# Altium footprint library BAR_SENS.PcbLib: 34 footprints (part 1 of 3)
Each footprint in its own frame and in the unit in brackets; x right, y up, seen from the top. Pads: shape width x height; smd on the part's side, far side on the other; paste and mask are expansions set on the pad; w line width, h text height; cw(c..) or ccw(c..) is an arc to the next point about the centre after c.
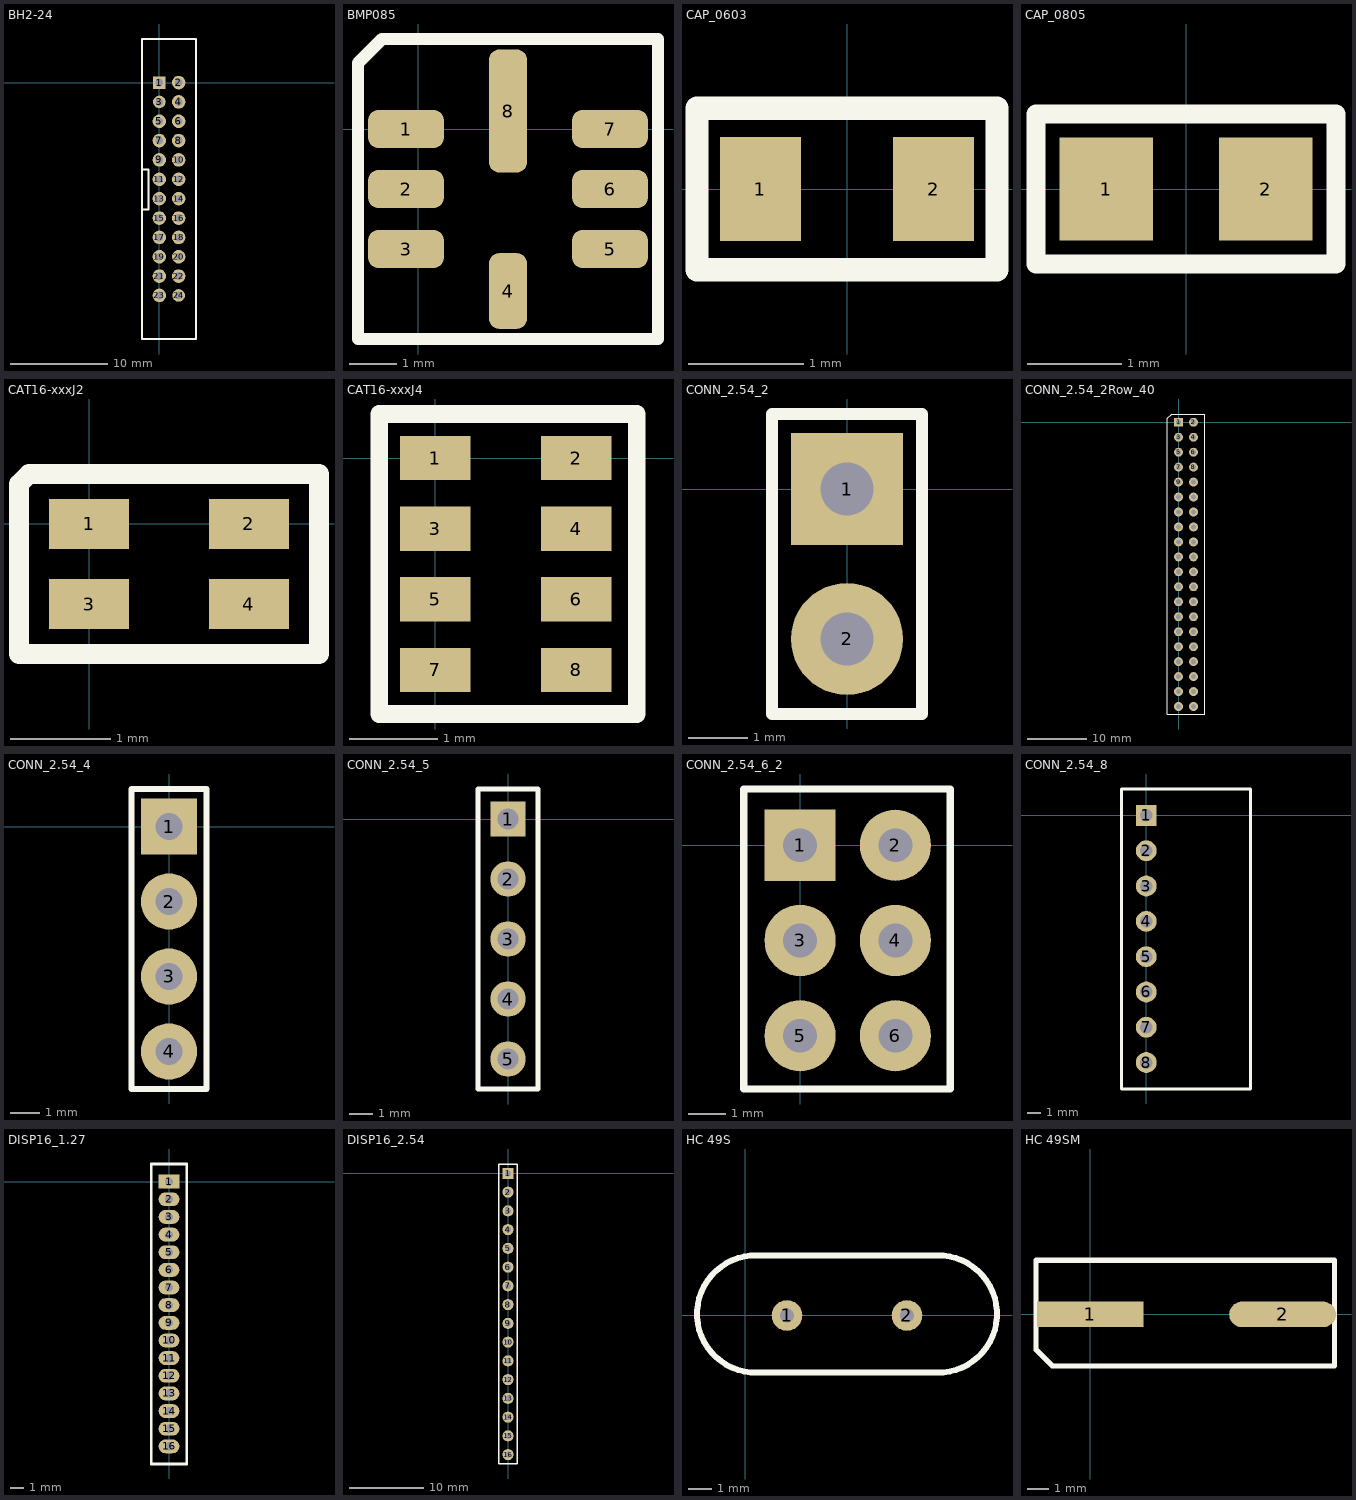
[diagram p0: the footprints below, top view; thin cyan lines are the x and y axes]

## BH2-24 [mm]
pads (24):
  rect 1.3x1.3 hole 0.8: 1(0,0)
  round 1.4 hole 0.8: 2(2,0) 4(2,-2) 5(0,-4) 6(2,-4) 7(0,-6) 8(2,-6) 9(0,-8) 10(2,-8) 11(0,-10) 12(2,-10) 13(0,-12) 14(2,-12) 15(0,-14) 16(2,-14) 17(0,-16) 18(2,-16) 19(0,-18) 20(2,-18) 21(0,-20) 22(2,-20) 23(0,-22)
  round 1.3 hole 0.8: 3(0,-2) 24(2,-22)
Top Overlay:
  lines w0.2: -1.8,-13.1 -1.1,-13.1 -1.1,-9 -1.8,-9 ; 0.5,4.5 3.8,4.5 3.8,-26.5 0.205,-26.5 -1.8,-26.5 -1.8,4.5 -0.077,4.5 0.307,4.5 1.5,4.5

## BMP085 [mm] "3"
height 10
pads (8):
  rrect50% 1.6x0.8 smd: 1(-0.254,0) 2(-0.254,-1.27) 3(-0.254,-2.54) 5(4.064,-2.54) 6(4.064,-1.27) 7(4.064,0)
  rrect50% 0.8x1.6 smd: 4(1.905,-3.429)
  rrect50% 0.8x2.6 smd: 8(1.905,0.381)
Top Overlay:
  lines w0.254: -1.27,-4.445 -1.27,-1.784 -1.27,1.397 -0.762,1.905 5.08,1.905 5.08,-4.445 -1.27,-4.445

## CAP_0603 [mm]
pads (2):
  rect 0.7x0.9 smd: 1(-0.75,0) 2(0.75,0)
Top Overlay:
  lines w0.2: -1.3,-0.7 -0.65,-0.7 0.65,-0.7 1.3,-0.7 1.3,0.7 -1.3,0.7 -1.3,-0.05 -1.3,-0.7

## CAP_0805 [mm]
pads (2):
  rect 1x1.1 smd: 1(-0.85,0) 2(0.85,0)
Top Overlay:
  lines w0.2: -1.6,-0.8 1.6,-0.8 1.6,0.8 -1.6,0.8 -1.6,-0.117 -1.6,-0.8

## CAT16-xxxJ2 [mm]
pads (4):
  rect 0.8x0.5 smd: 1(0,0) 2(1.6,0) 3(0,-0.8) 4(1.6,-0.8)
Top Overlay:
  lines w0.2: 0.6,0.5 2.3,0.5 2.3,-1.3 -0.7,-1.3 -0.7,0.4 -0.6,0.5 1,0.5

## CAT16-xxxJ4 [mm]
pads (8):
  rect 0.8x0.5 smd: 1(0,0) 2(1.6,0) 3(0,-0.8) 4(1.6,-0.8) 5(0,-1.6) 6(1.6,-1.6) 7(0,-2.4) 8(1.6,-2.4)
Top Overlay:
  lines w0.2: 0.6,0.5 2.286,0.5 2.286,-2.9 -0.635,-2.9 -0.635,0.5 1,0.5

## CONN_2.54_2 [mm]
pads (2):
  rect 1.9x1.9 hole 0.9: 1(0,0)
  round 1.9 hole 0.9: 2(0,-2.54)
Top Overlay:
  lines w0.2: -1.27,-3.81 -1.27,1.27 1.27,1.27 1.27,-3.81 -1.27,-3.81

## CONN_2.54_2Row_40 [mm]
pads (40):
  rect 1.5x1.5 hole 0.9: 1(0,0)
  round 1.5 hole 0.9: 2(2.54,0) 3(0,-2.54) 4(2.54,-2.54) 5(0,-5.08) 6(2.54,-5.08) 7(0,-7.62) 8(2.54,-7.62) 9(0,-10.16) 10(2.54,-10.16) 11(0,-12.7) 12(2.54,-12.7) 13(0,-15.24) 14(2.54,-15.24) 15(0,-17.78) 16(2.54,-17.78) 17(0,-20.32) 18(2.54,-20.32) 19(0,-22.86) 20(2.54,-22.86) 21(0,-25.4) 22(2.54,-25.4) 23(0,-27.94) 24(2.54,-27.94) 25(0,-30.48) 26(2.54,-30.48) 27(0,-33.02) 28(2.54,-33.02) 29(0,-35.56) 30(2.54,-35.56) 31(0,-38.1) 32(2.54,-38.1) 33(0,-40.64) 34(2.54,-40.64) 35(0,-43.18) 36(2.54,-43.18) 37(0,-45.72) 38(2.54,-45.72) 39(0,-48.26) 40(2.54,-48.26)
Top Overlay:
  lines w0.2: -1.905,-49.53 1.27,-49.53 4.445,-49.53 4.445,-8.89 4.445,1.397 -1.143,1.397 -1.905,0.635 -1.905,-49.53

## CONN_2.54_4 [mm]
pads (4):
  rect 1.9x1.9 hole 0.9: 1(0,0)
  round 1.9 hole 0.9: 2(0,-2.54) 3(0,-5.08) 4(0,-7.62)
Top Overlay:
  lines w0.2: -1.27,-8.89 -1.27,1.27 1.27,1.27 1.27,-8.89 -1.27,-8.89

## CONN_2.54_5 [mm]
pads (5):
  rect 1.5x1.5 hole 0.9: 1(0,0)
  round 1.5 hole 0.9: 2(0,-2.54) 3(0,-5.08) 4(0,-7.62) 5(0,-10.16)
Top Overlay:
  lines w0.2: -1.27,-11.43 1.27,-11.43 1.27,1.27 -1.27,1.27 -1.27,-11.43

## CONN_2.54_6_2 [mm]
pads (6):
  rect 1.9x1.9 hole 0.9: 1(0,0)
  round 1.9 hole 0.9: 2(2.54,0) 3(0,-2.54) 4(2.54,-2.54) 5(0,-5.08) 6(2.54,-5.08)
Top Overlay:
  lines w0.2: -1.5,-6.5 -1.5,1.5 4,1.5 4,-6.5 -1.5,-6.5

## CONN_2.54_8 [mm]
pads (8):
  rect 1.5x1.5 hole 0.9: 1(0,0)
  round 1.5 hole 0.9: 2(0,-2.54) 3(0,-5.08) 4(0,-7.62) 5(0,-10.16) 6(0,-12.7) 7(0,-15.24) 8(0,-17.78)
Top Overlay:
  lines w0.2: -1.778,-19.685 -1.778,1.905 7.493,1.905 7.493,-19.685 -1.778,-19.685

## DISP16_1.27 [mm]
pads (16):
  rect 1.5x1 hole 0.6: 1(0,0)
  oval 1.5x1 hole 0.6: 2(0,-1.27) 3(0,-2.54) 4(0,-3.81) 5(0,-5.08) 6(0,-6.35) 7(0,-7.62) 8(0,-8.89) 9(0,-10.16) 10(0,-11.43) 11(0,-12.7) 12(0,-13.97) 13(0,-15.24) 14(0,-16.51) 15(0,-17.78) 16(0,-19.05)
Top Overlay:
  lines w0.2: -1.27,-20.32 -1.27,1.27 1.27,1.27 1.27,-20.32 -1.27,-20.32

## DISP16_2.54 [mm]
height 2
pads (16):
  rect 1.5x1.5 hole 0.8: 1(0,0)
  round 1.5 hole 0.8: 2(0,-2.54) 3(0,-5.08) 4(0,-7.62) 5(0,-10.16) 6(0,-12.7) 7(0,-15.24) 8(0,-17.78) 9(0,-20.32) 10(0,-22.86) 11(0,-25.4) 12(0,-27.94) 13(0,-30.48) 14(0,-33.02) 15(0,-35.56) 16(0,-38.1)
Top Overlay:
  lines w0.2: -1.27,-39.37 -1.27,1.27 1.27,1.27 1.27,-39.37 -1.27,-39.37

## HC 49S [mm] "DIP QUARTZ"
height 10
pads (2):
  round 1.3 hole 0.6: 1(1.778,0) 2(6.858,0)
Top Overlay:
  lines w0.254: 0.508,-2.413 cw(c0.445,0.064) 0.508,2.54 1.27,2.54 8.128,2.54 cw(c8.191,0.064) 8.128,-2.413 0.508,-2.413

## HC 49SM [mm]
pads (2):
  rect 5x1.2 smd: 1(0,0)
  oval 5x1.2 smd: 2(9,0)
Top Overlay:
  lines w0.254: -2.54,-1.651 -2.54,2.54 1.27,2.54 11.43,2.54 11.43,-2.413 8.128,-2.413 -1.778,-2.413 -2.54,-1.651